# EAGLE library part PT2314 (library audio-mixer-processor)
4-Channel Input Audio Processor
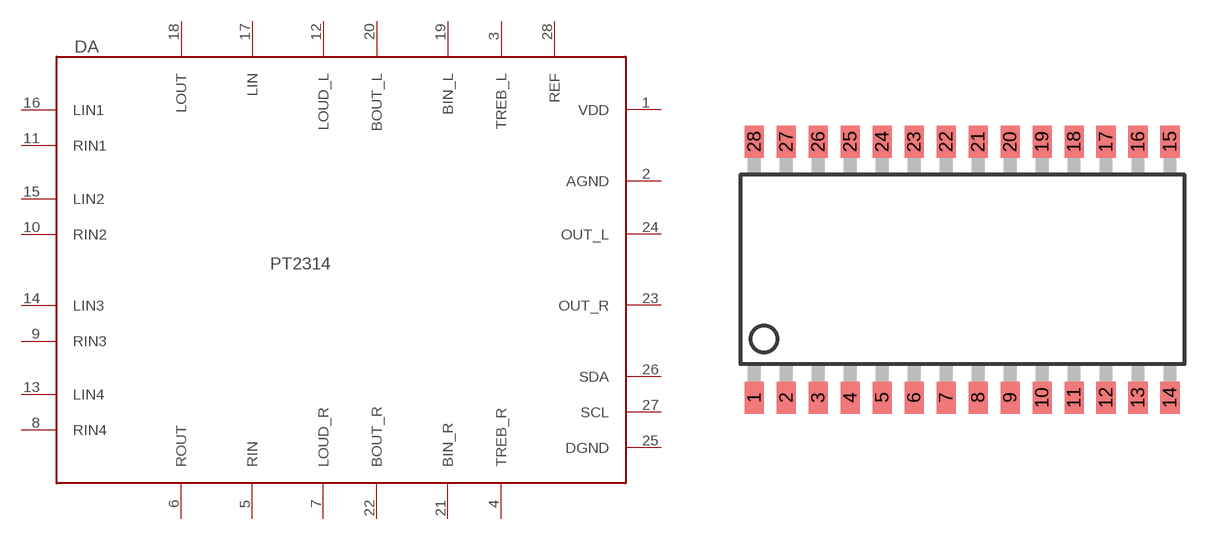
[diagram p0: symbol with the pads of SO-28W; footprint SO-28W]

Designator prefix DA

## PT2314  [SO-28W]
1  VDD  pwr
2  AGND  pwr
3  TREB_L  in
4  TREB_R  in
5  RIN  in
6  ROUT  out
7  LOUD_R  in
8  RIN4  in
9  RIN3  in
10  RIN2  in
11  RIN1  in
12  LOUD_L  in
13  LIN4  in
14  LIN3  in
15  LIN2  in
16  LIN1  in
17  LIN  in
18  LOUT  out
19  BIN_L  in
20  BOUT_L  out
21  BIN_R  in
22  BOUT_R  out
23  OUT_R  out
24  OUT_L  out
25  DGND  pwr
26  SDA
27  SCL
28  REF  pas

## Footprint SO-28W (pad centres in mm)
Small Outline Wide Plastic Gull Wing 300-mil body, package type SO
smd 0.762 x 1.27: 1 -8.255,-5.08; 2 -6.985,-5.08; 3 -5.715,-5.08; 4 -4.445,-5.08; 5 -3.175,-5.08; 6 -1.905,-5.08; 7 -0.635,-5.08; 8 0.635,-5.08; 9 1.905,-5.08; 10 3.175,-5.08; 11 4.445,-5.08; 12 5.715,-5.08; 13 6.985,-5.08; 14 8.255,-5.08; 15 8.255,5.08; 16 6.985,5.08; 17 5.715,5.08; 18 4.445,5.08; 19 3.175,5.08; 20 1.905,5.08; 21 0.635,5.08; 22 -0.635,5.08; 23 -1.905,5.08; 24 -3.175,5.08; 25 -4.445,5.08; 26 -5.715,5.08; 27 -6.985,5.08; 28 -8.255,5.08